# EAGLE library part ATUM (library perspection)
Atum sensorboard prototyping module.
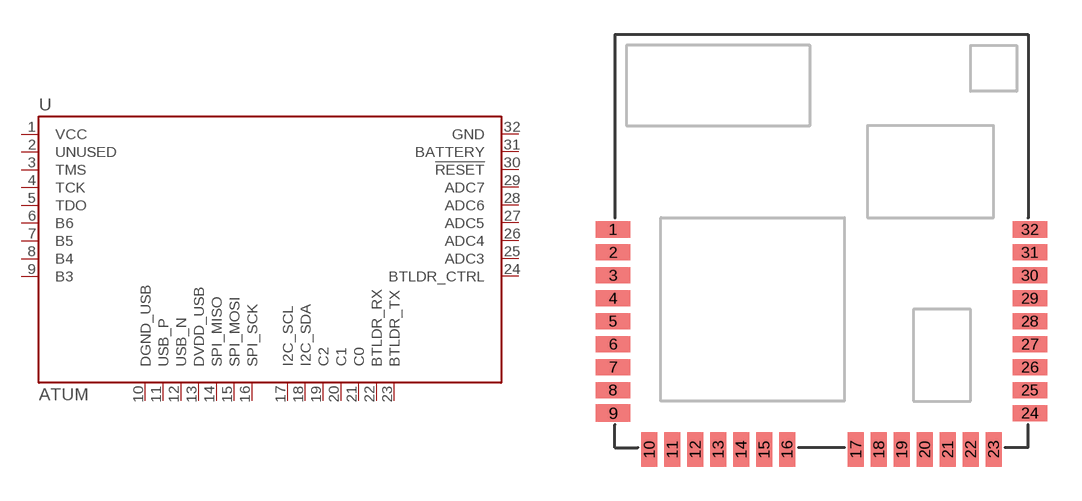
[diagram p2: symbol with the pads of ATUM; footprint ATUM]

Designator prefix U

## ATUM  [ATUM]
1  VCC
2  UNUSED
3  TMS
4  TCK
5  TDO
6  B6
7  B5
8  B4
9  B3
10  DGND_USB
11  USB_P
12  USB_N
13  DVDD_USB
14  SPI_MISO
15  SPI_MOSI
16  SPI_SCK
17  I2C_SCL
18  I2C_SDA
19  C2
20  C1
21  C0
22  BTLDR_RX
23  BTLDR_TX
24  BTLDR_CTRL
25  ADC3
26  ADC4
27  ADC5
28  ADC6
29  ADC7
30  !RESET
31  BATTERY
32  GND

## Footprint ATUM (pad centres in mm)
smd 1.5 x 0.7: 1 -9.079,0.5; 2 -9.079,-0.5; 3 -9.079,-1.5; 4 -9.079,-2.5; 5 -9.079,-3.5; 6 -9.079,-4.5; 7 -9.079,-5.5; 8 -9.079,-6.5; 24 9.079,-7.5; 25 9.079,-6.5; 26 9.079,-5.5; 27 9.079,-4.5; 28 9.079,-3.5; 29 9.079,-2.5; 30 9.079,-1.5; 31 9.079,-0.5; 32 9.079,0.5
smd 1.5 x 0.754: 9 -9.079,-7.5
smd 0.7 x 1.5: 10 -7.5,-9.079; 11 -6.5,-9.079; 12 -5.5,-9.079; 13 -4.5,-9.079; 14 -3.5,-9.079; 15 -2.5,-9.079; 16 -1.5,-9.079; 17 1.5,-9.079; 18 2.5,-9.079; 19 3.5,-9.079; 20 4.5,-9.079; 21 5.5,-9.079; 22 6.5,-9.079; 23 7.5,-9.079